# Altium footprint library PCB - POWER INDUCTORS - WURTH WE-HCI 7040.PCBLIB: 1 footprints
Each footprint in its own frame and in the unit in brackets; x right, y up, seen from the top. Pads: shape width x height; smd on the part's side, far side on the other; paste and mask are expansions set on the pad; w line width, h text height; cw(c..) or ccw(c..) is an arc to the next point about the centre after c.
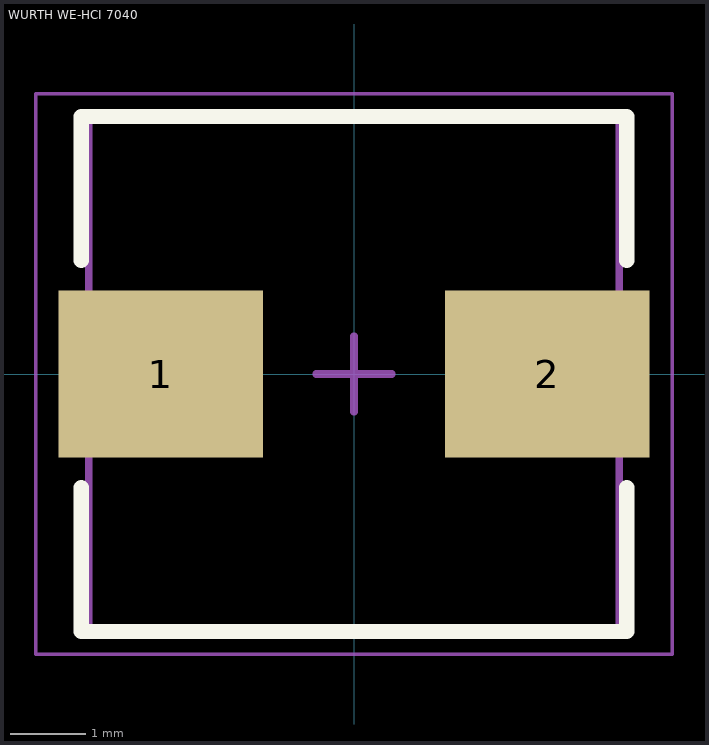
[diagram p0: the footprint, top view; thin cyan lines are the x and y axes]

## WURTH WE-HCI 7040 [mm]
height 4
pads (2):
  rect 2.7x2.2 smd: 1(-2.55,0) 2(2.55,0)
Top Overlay:
  lines w0.2: -3.6,-1.5 -3.6,-3.4 3.6,-3.4 3.6,-1.5 ; -3.6,1.5 -3.6,3.4 3.6,3.4 3.6,1.5
Top Assembly:
  lines w0.1: -3.5,-3.4 -3.5,3.4 3.5,3.4 3.5,-3.4 -3.5,-3.4
  text ".Designator" at -3.425,-0.344 h1.52
Top Courtyard:
  lines w0.05: -4.2,-3.7 -4.2,3.7 4.2,3.7 4.2,-3.7 -4.2,-3.7
  lines w0.1: -0.5,0 0.5,0 ; 0,-0.5 0,0.5
3D body "WE-HCI 7040.STEP": height 4, standoff 0, extent -3.49,-3.45 3.49,3.45